# Altium footprint library Wrist Watch.PcbLib: 31 footprints (part 2 of 2)
Each footprint in its own frame and in the unit in brackets; x right, y up, seen from the top. Pads: shape width x height; smd on the part's side, far side on the other; paste and mask are expansions set on the pad; w line width, h text height; cw(c..) or ccw(c..) is an arc to the next point about the centre after c.
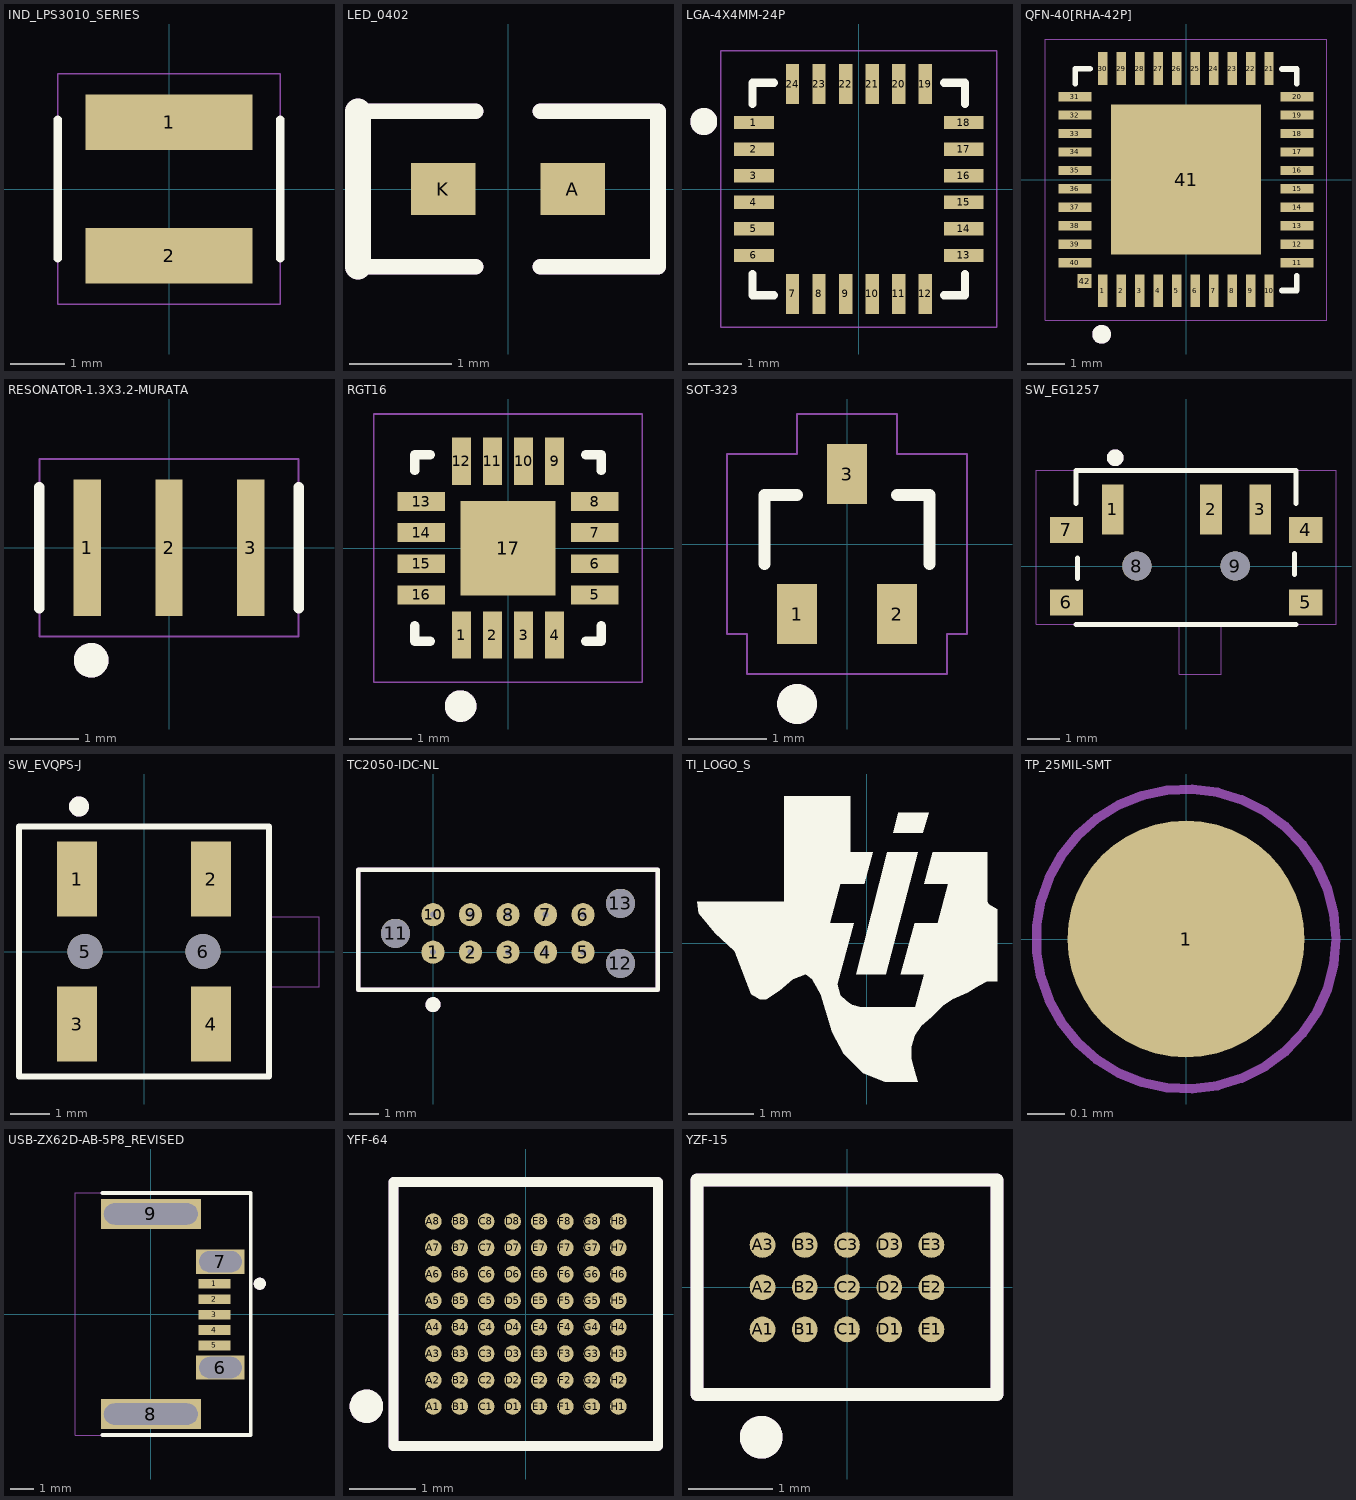
[diagram p1: the footprints below, top view; thin cyan lines are the x and y axes]

## IND_LPS3010_SERIES [mil]
pads (2):
  rect 120x40 smd: 1(0,48) 2(0,-48)
Top Overlay:
  lines w6: -80,-50 -80,50 ; 80,-50 80,50
  text ".Designator" at -170,105 h35
Mechanical 1:
  lines w1.1: -80,-83 80,-83 80,83 -80,83 -80,-83

## LED_0402 [mil]
pads (2):
  rect 25x20 smd: A(25,0) K(-25,0)
Top Overlay:
  lines w6: -58,-30 -12.5,-30 ; -58,30 -12.5,30 ; 12.5,-30 58,-30 58,30 12.5,30
  lines w10: -58,-30 -58,30
  text ".Designator" at -170,55 h35
Mechanical 1:
  lines w6: -58,-30 -12.5,-30 ; -58,30 -12.5,30 ; 12.5,-30 58,-30 58,30 12.5,30
  lines w10: -58,-30 -58,30

## LGA-4X4MM-24P [mil]
pads (24):
  rect 29.53x9.84 smd: 1(-77.76,49.21) 2(-77.76,29.53) 3(-77.76,9.84) 4(-77.76,-9.84) 5(-77.76,-29.53) 6(-77.76,-49.21) 13(77.76,-49.21) 14(77.76,-29.53) 15(77.76,-9.84) 16(77.76,9.84) 17(77.76,29.53) 18(77.76,49.21)
  rect 9.84x29.53 smd: 7(-49.21,-77.76) 8(-29.53,-77.76) 9(-9.84,-77.76) 10(9.84,-77.76) 11(29.53,-77.76) 12(49.21,-77.76) 19(49.21,77.76) 20(29.53,77.76) 21(9.84,77.76) 22(-9.84,77.76) 23(-29.53,77.76) 24(-49.21,77.76)
Top Overlay:
  circle w10: c-115,50 r5
  lines w6: -78.74,-62.99 -78.74,-78.74 -62.99,-78.74 ; -78.74,62.99 -78.74,78.74 -62.99,78.74 ; 62.99,-78.74 78.74,-78.74 78.74,-62.99 ; 62.99,78.74 78.74,78.74 78.74,62.99
  text ".Designator" at -180,120 h35
Mechanical 1:
  circle w10: c-115,50 r5
  lines w1.1: -102.36,-102.36 102.36,-102.36 102.36,102.36 -102.36,102.36 -102.36,-102.36

## QFN-40[RHA-42P] [mil]
pads (42):
  rect 10x35 smd: 1(-88.7,-118.6) 2(-69,-118.6) 3(-49.3,-118.6) 4(-29.6,-118.6) 5(-9.9,-118.6) 6(9.8,-118.6) 7(29.5,-118.6) 8(49.2,-118.6) 9(68.9,-118.6) 10(88.6,-118.6) 21(88.6,118.4) 22(68.9,118.4) 23(49.2,118.4) 24(29.5,118.4) 25(9.8,118.4) 26(-9.9,118.4) 27(-29.6,118.4) 28(-49.3,118.4) 29(-69,118.4) 30(-88.7,118.4)
  rect 35x10 smd: 11(118.5,-88.7) 12(118.5,-69) 13(118.5,-49.3) 14(118.5,-29.6) 15(118.5,-9.9) 16(118.5,9.8) 17(118.5,29.5) 18(118.5,49.2) 19(118.5,68.9) 20(118.5,88.6) 31(-118.5,88.6) 32(-118.5,68.9) 33(-118.5,49.2) 34(-118.5,29.5) 35(-118.5,9.8) 36(-118.5,-9.9) 37(-118.5,-29.6) 38(-118.5,-49.3) 39(-118.5,-69) 40(-118.5,-88.7)
  rect 160x160 smd: 41(0,0)
  rect 15x15 smd: 42(-108.2,-108.2)
Top Overlay:
  circle w10: c-90,-165 r5
  lines w6: -118.11,102.36 -118.11,118.11 -102.36,118.11 ; 102.36,-118.21 118.11,-118.21 118.11,-102.46 ; 102.36,118.01 118.11,118.01 118.11,102.26
  text ".Designator" at -190,165 h35
Mechanical 1:
  circle w10: c-90,-165 r5
  lines w1.1: -150,-150 -150,150 150,150 150,-150 -150,-150
  text "U6" at -20,27.42 h30

## RESONATOR-1.3X3.2-MURATA [mm]
pads (3):
  rect 0.4x2 smd: 1(-1.2,0) 2(0,0) 3(1.2,0)
Top Overlay:
  circle w0.254: c-1.143,-1.651 r0.127
  lines w0.152: -1.905,-0.889 -1.905,0.889 ; 1.905,-0.889 1.905,0.889
  text ".Designator" at -4.318,1.778 h0.89
Mechanical 1:
  circle w0.254: c-1.143,-1.651 r0.127
  lines w0.028: -1.9,-1.3 1.9,-1.3 1.9,1.3 -1.9,1.3 -1.9,-1.3

## RGT16 [mil]
pads (17):
  rect 12x30 smd paste+1: 1(-29.53,-55) 2(-9.84,-55) 3(9.84,-55) 4(29.53,-55) 9(29.53,55) 10(9.84,55) 11(-9.84,55) 12(-29.53,55)
  rect 30x12 smd: 5(55,-29.53) 6(55,-9.84) 7(55,9.84) 8(55,29.53) 13(-55,29.53) 14(-55,9.84) 15(-55,-9.84) 16(-55,-29.53)
  rect 60x60 smd: 17(0,0)
Top Overlay:
  circle w10: c-30,-100 r5
  lines w6: -59.06,-49.21 -59.06,-59.06 -49.21,-59.06 ; -59.06,49.21 -59.06,59.06 -49.21,59.06 ; 49.21,-59.06 59.06,-59.06 59.06,-49.21 ; 49.21,59.06 59.06,59.06 59.06,49.21
  text ".Designator" at -170,100 h35
Mechanical 1:
  circle w10: c-30,-100 r5
  lines w0.98: -85,-85 -85,85 85,85 85,-85 -85,-85

## SOT-323 [mil]
pads (3):
  rect 20x30 smd: 1(-25,-35) 2(25,-35) 3(0,35)
Top Overlay:
  circle w10: c-25,-80 r5
  lines w6: -41.34,-10 -41.34,24.41 -25,24.41 ; 25,24.41 41.34,24.41 41.34,-10
  text ".Designator" at -150,75 h35
Mechanical 1:
  circle w10: c-25,-80 r5
  lines w1: -60,-45 -60,45 -25,45 -25,65 25,65 25,45 60,45 60,-45 50,-45 50,-65 -50,-65 -50,-45 -60,-45

## SW_EG1257 [mil]
pads (9):
  rect 26x60 smd: 1(-88,68) 2(30,68) 3(89,68)
  rect 40x31 smd: 4(143.5,43.5) 5(143.5,-43.5) 6(-143.5,-43.5) 7(-143.5,43.5)
  round 35 hole 35 unplated: 8(-59,0) 9(59,0)
Top Overlay:
  circle w10: c-85,130 r5
  lines w6: -131.89,-70 131.89,-70 ; -131.89,75 -131.89,115 131.89,115 131.89,75 ; -130,-15 -130,10 ; 130,-10 130,15
  text ".Designator" at -50,135 h35
Mechanical 1:
  circle w10: c-85,130 r5
  lines w1.1: -8,-70 -8,-130 42,-130 42,-70 ; -180,-70 180,-70 180,115 -180,115 -180,-70

## SW_EVQPS-J [mil]
pads (6):
  rect 40x75 smd: 1(-67,72.5) 2(67,72.5) 3(-67,-72.5) 4(67,-72.5)
  round 35 / inner round 40 / far side round 35 hole 35 unplated: 5(-59,0) 6(59,0)
Top Overlay:
  circle w10: c-65,145 r5
  lines w6: -125,-125 -125,125 125,125 125,-125 -125,-125
  text ".Designator" at -35,140 h35
Mechanical 1:
  circle w10: c-65,145 r5
  lines w1.1: 125,-35 175,-35 175,35 125,35 ; -125,-125 -125,125 125,125 125,-125 -125,-125

## TC2050-IDC-NL [mil]
pads (13):
  round 31 hole 8 mask+1.5: 1(0,0) 2(50,0) 3(100,0) 4(150,0) 5(200,0) 6(200,50) 7(150,50) 8(100,50) 9(50,50) 10(0,50)
  round 39 hole 39 unplated: 11(-50,25) 12(250,-15) 13(250,65)
Top Overlay:
  circle w10: c0,-70 r5
  lines w6: -100,-50 -100,110 300,110 300,-50 -100,-50
  text ".Designator" at -80,135 h35
Mechanical 1:
  circle w10: c0,-70 r5
  lines w6: -100,-50 300,-50 300,110 -100,110 -100,-50

## TI_LOGO_S [mil]
Top Overlay:
  region: 35,36 49.5,36 43,12 29,12 20.5,-19 35,-19 29.5,-39 -3.5,-39 -9,-37.5 -12.5,-35 -16,-31.5 -18,-25 -8,12 -22.5,12 -16,36 -1.5,36 3.5,55 -10,55 -10,89 -50,89 -50,25 -103,25 -102,18 -92,6 -80,-5 -70,-31 -65,-34 -61,-34 -53,-29 -45,-22 -37,-19 -33,-22 -28,-31 -21,-54 -14,-67 -2,-79 11,-84 31,-84 29,-78 27,-70 27,-63 29,-56 33,-50 39,-45 46,-38 52,-34 61,-30 68,-26 73,-23 79,-23 79,20.5 74,23.5 73,25.5 73,55 40,55
  region: -6.5,-19 11.5,-19 31,55 12.5,55
  region: 16,67 34,67 37.5,79 19,79

## TP_25MIL-SMT [mil]
pads (1):
  round 25 smd mask-2.5: 1(0,0)
Top Overlay:
  text ".Designator" at -180,60 h35
Mechanical 1:
  circle w1: c0,0 r15.81

## USB-ZX62D-AB-5P8_REVISED [mil]
pads (9):
  rect 53x16 smd: 1(105,50) 2(105,24.5) 3(105,-1) 4(105,-26.5) 5(105,-52)
  rect 80x40 hole 35 slot 70 at 0 deg: 6(115,-88.5) 7(115,86.5)
  rect 165x50 hole 35 slot 155 at 0 deg: 8(0,-165.35) 9(0,165.35)
Top Overlay:
  circle w10: c180,50 r5
  lines w6: -80,-200 165,-200 165,200 -80,200
  text ".Designator" at -155,225 h35
Mechanical 1:
  circle w10: c180,50 r5
  lines w1.1: -125,-200 -125,200 165,200 165,-200 -125,-200

## YFF-64 [mm]
pads (64):
  round 0.25 smd: A1(-1.4,-1.4) A2(-1.4,-1) A3(-1.4,-0.6) A4(-1.4,-0.2) A5(-1.4,0.2) A6(-1.4,0.6) A7(-1.4,1) A8(-1.4,1.4) B1(-1,-1.4) B2(-1,-1) B3(-1,-0.6) B4(-1,-0.2) B5(-1,0.2) B6(-1,0.6) B7(-1,1) B8(-1,1.4) C1(-0.6,-1.4) C2(-0.6,-1) C3(-0.6,-0.6) C4(-0.6,-0.2) C5(-0.6,0.2) C6(-0.6,0.6) C7(-0.6,1) C8(-0.6,1.4) D1(-0.2,-1.4) D2(-0.2,-1) D3(-0.2,-0.6) D4(-0.2,-0.2) D5(-0.2,0.2) D6(-0.2,0.6) D7(-0.2,1) D8(-0.2,1.4) E1(0.2,-1.4) E2(0.2,-1) E3(0.2,-0.6) E4(0.2,-0.2) E5(0.2,0.2) E6(0.2,0.6) E7(0.2,1) E8(0.2,1.4) F1(0.6,-1.4) F2(0.6,-1) F3(0.6,-0.6) F4(0.6,-0.2) F5(0.6,0.2) F6(0.6,0.6) F7(0.6,1) F8(0.6,1.4) G1(1,-1.4) G2(1,-1) G3(1,-0.6) G4(1,-0.2) G5(1,0.2) G6(1,0.6) G7(1,1) G8(1,1.4) H1(1.4,-1.4) H2(1.4,-1) H3(1.4,-0.6) H4(1.4,-0.2) H5(1.4,0.2) H6(1.4,0.6) H7(1.4,1) H8(1.4,1.4)
Top Overlay:
  circle w0.254: c-2.413,-1.397 r0.127
  lines w0.152: -2,-2 2,-2 2,2 -2,2 -2,-2
  text ".Designator" at -4.953,2.54 h0.89
Mechanical 1:
  circle w0.254: c-2.413,-1.397 r0.127
  lines w0.152: -2,-2 -2,2 2,2 2,-2 -2,-2

## YZF-15 [mil]
pads (15):
  round 12 smd: A1(-39.4,-19.7) A2(-39.4,0) A3(-39.4,19.7) B1(-19.7,-19.7) B2(-19.7,0) B3(-19.7,19.7) C1(0,-19.7) C2(0,0) C3(0,19.7) D1(19.7,-19.7) D2(19.7,0) D3(19.7,19.7) E1(39.4,-19.7) E2(39.4,0) E3(39.4,19.7)
Top Overlay:
  circle w10: c-40,-70 r5
  lines w6: -70,-50 70,-50 70,50 -70,50 -70,-50
  text ".Designator" at -185,75 h35
Mechanical 1:
  circle w10: c-40,-70 r5
  lines w6: -70,-50 -70,50 70,50 70,-50 -70,-50